# Altium footprint library 2-Battery Holders.PcbLib: 20 footprints (part 1 of 2)
Each footprint in its own frame and in the unit in brackets; x right, y up, seen from the top. Pads: shape width x height; smd on the part's side, far side on the other; paste and mask are expansions set on the pad; w line width, h text height; cw(c..) or ccw(c..) is an arc to the next point about the centre after c.
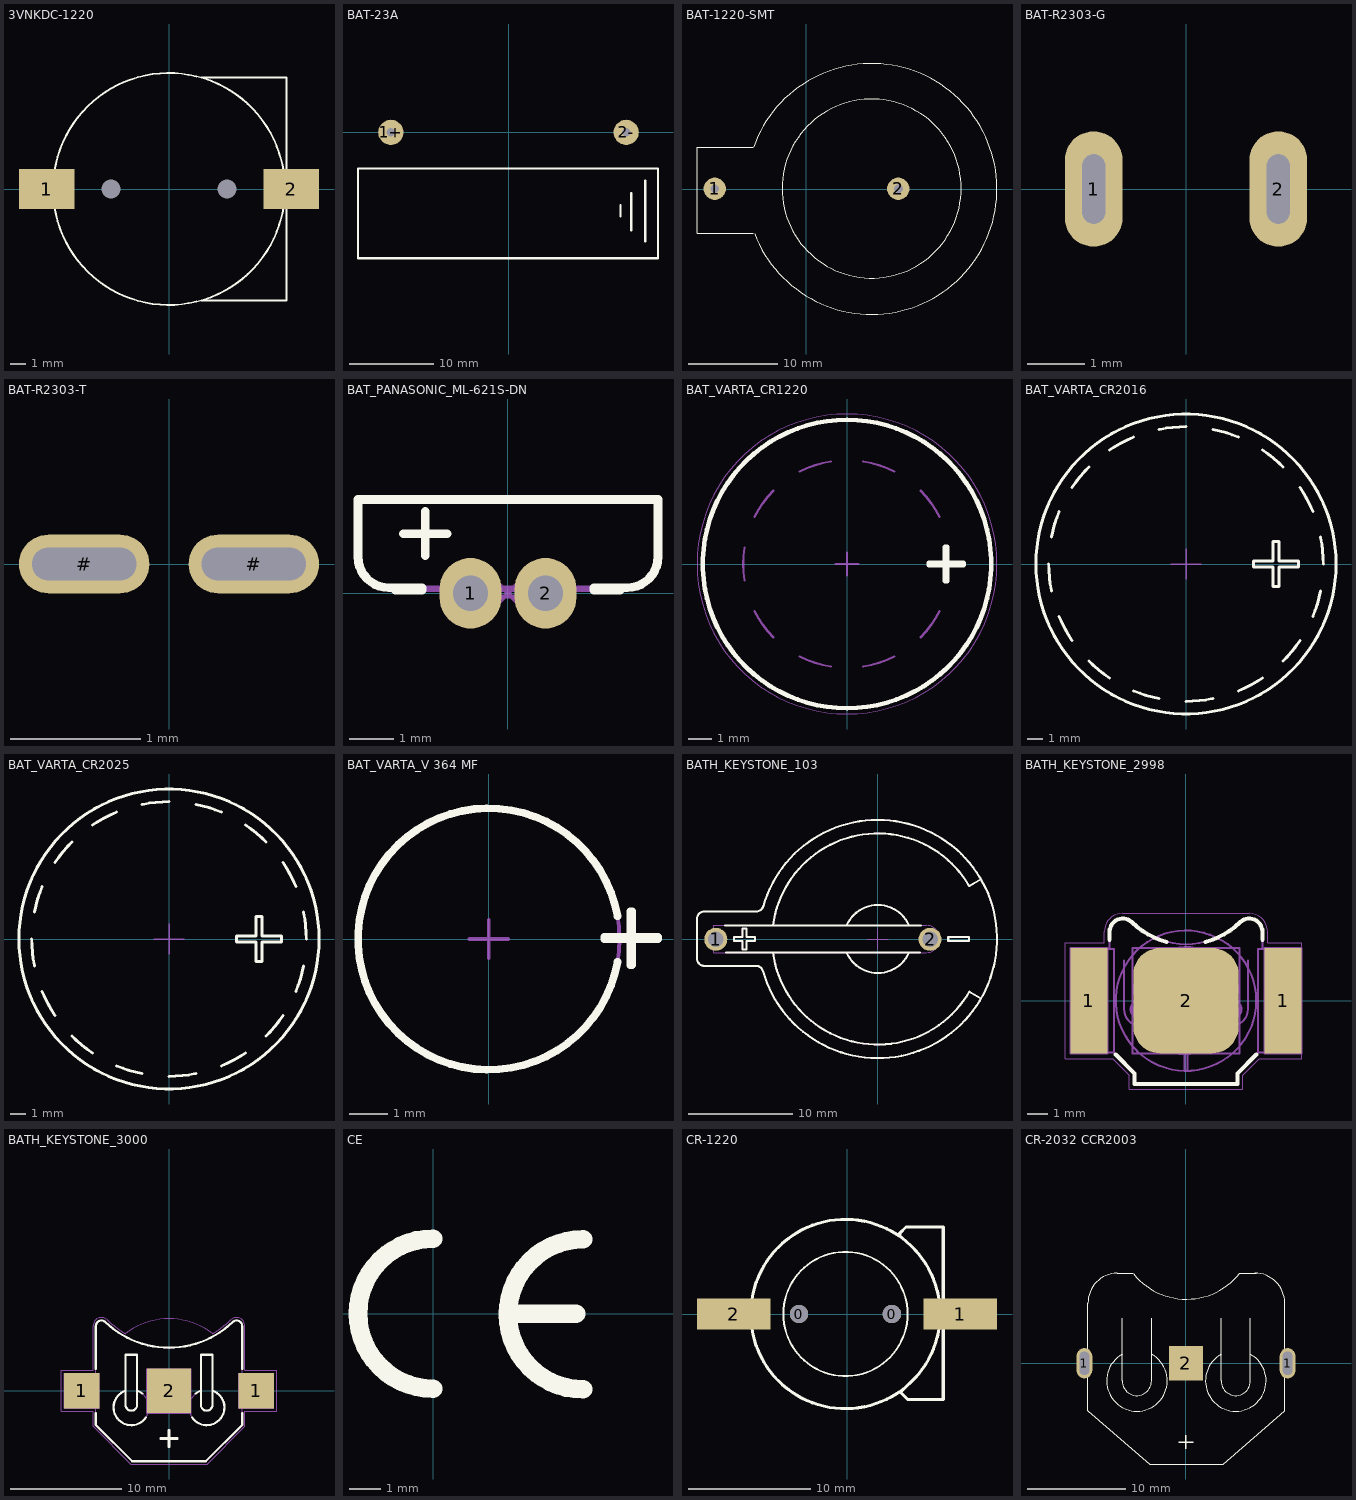
[diagram p0: the footprints below, top view; thin cyan lines are the x and y axes]

## 3VNKDC-1220 [mm]
pads (4):
  rect 3.6x2.6 smd: 1(-7.9,0) 2(7.9,0)
  round 0 hole 1.2 unplated: 3(-3.75,0) 4(3.75,0)
Top Overlay:
  circle w0.127: c0,0 r7.5
  lines w0.127: 2.1,-7.2 7.6,-7.2 7.6,7.2 2.1,7.2
3D body "cr1220-smt.stp": height 4.3, standoff 0, extent -9.263,-7.4 9.34,7.6
3D body "p360-260.stp": height 0.02, standoff 0, extent -9.7,-1.3 -6.1,1.3
3D body "p360-260.stp": height 0.02, standoff 0, extent 6.1,-1.3 9.7,1.3

## BAT-23A [mm]
pads (2):
  round 3 hole 1: 1+(-14,0) 2-(14,0)
Top Overlay:
  lines w0.254: 13.335,-10.033 13.335,-8.636 ; 14.605,-11.684 14.605,-7.239 ; 16.256,-12.954 16.256,-5.715 ; -17.907,-14.986 -17.907,-4.318 17.78,-4.318 17.78,-14.986 -17.907,-14.986
3D body "v300-100.stp": height 0.02, standoff -1.65, extent 12.5,-1.5 15.5,1.5
3D body "v300-100.stp": height 0.02, standoff -1.65, extent -15.4,-1.5 -12.4,1.5
3D body "bat-23a.stp": height 6.6, standoff -5.6, extent -17.7,-14.7 17.9,0.594

## BAT-1220-SMT [mm]
height 16.4
pads (2):
  round 2.5 hole 1: 1(-10.225,0.025)
  round 2.5 hole 1 mask+0.07: 2(10.275,0.025)
Top Overlay:
  circle w0.03: c7.301,0.051 r10
  lines w0.03: -5.945,-4.94 -12.206,-4.94 -12.206,4.674 -5.945,4.674 ; -5.887,4.697 cw(c7.301,0) -5.775,-5.002
Mechanical 6:
  text "2" at 13.515,-0.013 h0.51
  text "1" at -1.985,-0.013 h0.51
3D body "bat-1220.stp": height 6.84, standoff -2.5, extent -12.057,-13.846 21.164,13.948

## BAT-R2303-G [mm]
height 16.4
pads (2):
  oval 1x2 hole 0.4 slot 1.2 at 90 deg mask+0.07: 1(-1.6,0)
  oval 1x2 hole 0.4 slot 1.2 at 90 deg: 2(1.6,0)
3D body "bat_g.stp": height 2.58, standoff -0.8, extent -1.75,-11.302 1.75,1.243
3D body "1-2.stp": height 0.05, standoff -0.55, extent -2.1,-1 -1.1,1
3D body "1-2.stp": height 0.05, standoff -0.55, extent 1.1,-0.991 2.1,1.009

## BAT-R2303-T [mm]
height 16.4
pads (2):
  oval 1x0.45 hole 0.25 slot 0.8 at 0 deg mask+0.07: #(-0.65,0)
  oval 1x0.45 hole 0.25 slot 0.8 at 0 deg: #(0.65,0)
3D body "bat_t.stp": height 0.4, standoff -2.6, extent -5.051,-0.1 4.949,2.139

## BAT_PANASONIC_ML-621S-DN [mm] "6.8mm Diameter x 2.55mm Height Rechargeable 3V, 5mAh, Lithium Coin Cells, ML Series"
height 2.55
pads (2):
  oval 1.4x1.6 hole 0.8: 1(-0.85,0) 2(0.85,0)
Top Overlay:
  lines w0.2: -2.55,0.125 -2.55,0.075 -1.948,0.075 ; -2.375,1.35 -1.875,1.35 ; -1.943,0.125 -2.7,0.125 cw(c-2.7,0.825) -3.4,0.825 -3.4,2.125 3.4,2.125 3.4,0.825 cw(c2.7,0.825) 2.7,0.125 1.944,0.125 ; -1.875,0.85 -1.875,1.35 ; -1.875,1.85 -1.875,1.35 ; -1.375,1.35 -1.875,1.35 ; 1.948,0.075 2.543,0.075 2.543,0.125
Mechanical 8:
  lines w0.1: -1.35,0 -0.85,0 ; -0.85,-0.5 -0.85,0 ; -0.85,0.5 -0.85,0 ; -0.354,-0.354 0,0 ; -0.354,0.354 0,0 ; -0.35,0 -0.85,0 ; 0.35,0 0.85,0 ; 0.354,-0.354 0,0 ; 0.354,0.354 0,0 ; 0.85,-0.5 0.85,0 ; 0.85,0.5 0.85,0 ; 1.35,0 0.85,0
Mechanical 14:
  lines w0.1: -2.55,0.125 -2.55,0.075 2.543,0.075 2.543,0.125 ; -2.375,1.35 -1.875,1.35 ; -1.875,0.85 -1.875,1.35 ; -1.875,1.85 -1.875,1.35 ; -1.375,1.35 -1.875,1.35 ; -1.05,-0.075 -1.05,0.075 ; -1,-0.075 1,-0.075 ; 1.05,-0.075 1.05,0.075 ; -3.4,0.825 ccw(c-2.7,0.825) -2.7,0.125 2.7,0.125 ccw(c2.7,0.825) 3.4,0.825 3.4,2.125 -3.4,2.125 -3.4,0.825
3D body "BAT_PANASONIC_ML-621S-DN.stp": height 7.4, standoff -1.85, extent -3.4,-0.075 3.4,2.275
3D body "v160-110.stp": height 0.02, standoff -1.65, extent -1.65,-0.8 -0.05,0.8
3D body "v160-110.stp": height 0.02, standoff -1.65, extent 0.05,-0.8 1.65,0.8

## BAT_VARTA_CR1220 [mm] "CR1210, 12.5mm Diameter x 2mm  Height Lithium Coin Cells"
height 2
Top Overlay:
  lines w0.2: 0,-6.25 ccw(c0,0) 0,6.25 ccw(c0,0) 0,-6.25 ; 3.547,-0.05 4.247,-0.05 4.247,-0.75 4.347,-0.75 4.347,-0.05 5.047,-0.05 5.047,0.05 4.347,0.05 4.347,0.75 4.247,0.75 4.247,0.05 3.547,0.05 3.547,-0.05
Mechanical 8:
  lines w0.1: -0.5,0 0,0 ; 0,-0.5 0,0 ; 0,0.5 0,0 ; 0.5,0 0,0
Mechanical 14:
  circle w0.1: c0,0 r6.25
  lines w0.1: -4.445,-0.704 cw(c0,0) -4.445,0.704 ; -4.01,-2.043 ccw(c0,0) -3.182,-3.182 ; -4.01,2.043 cw(c0,0) -3.182,3.182 ; -2.043,-4.01 ccw(c0,0) -0.704,-4.445 ; -2.043,4.01 cw(c0,0) -0.704,4.445 ; 0.704,-4.445 ccw(c0,0) 2.043,-4.01 ; 0.704,4.445 cw(c0,0) 2.043,4.01 ; 3.182,-3.182 ccw(c0,0) 4.01,-2.043 ; 3.182,3.182 cw(c0,0) 4.01,2.043
Mechanical 15:
  circle w0.05: c0,0 r6.5
3D body "BAT_VARTA_CR1220.stp": height 2, standoff 0, extent -6.25,-6.25 6.25,6.25

## BAT_VARTA_CR2016 [mm] "CR2016, 20mm Diameter x 1.6mm  Height Lithium Coin Cells"
height 1.6
Top Overlay:
  circle w0.2: c0,0 r10
  lines w0.2: -9.15,0 ccw(c0,0) -8.974,-1.785 ; -8.974,1.785 cw(c0,0) -8.454,3.502 ; -8.454,-3.502 ccw(c0,0) -7.608,-5.083 ; -7.608,5.083 cw(c0,0) -6.47,6.47 ; -6.47,-6.47 ccw(c0,0) -5.083,-7.608 ; -5.083,7.608 cw(c0,0) -3.502,8.454 ; -3.502,-8.454 ccw(c0,0) -1.785,-8.974 ; -1.785,8.974 cw(c0,0) 0,9.15 ; 0,-9.15 ccw(c0,0) 1.785,-8.974 ; 1.785,8.974 cw(c0,0) 3.502,8.454 ; 3.502,-8.454 ccw(c0,0) 5.083,-7.608 ; 5.083,7.608 cw(c0,0) 6.47,6.47 ; 6.47,-6.47 ccw(c0,0) 7.608,-5.083 ; 7.608,5.083 cw(c0,0) 8.454,3.502 ; 8.454,-3.502 ccw(c0,0) 8.974,-1.785 ; 8.974,1.785 cw(c0,0) 9.15,0 ; 4.5,-0.2 4.5,0.2 5.813,0.2 5.813,1.5 6.213,1.5 6.213,0.2 7.5,0.2 7.5,-0.2 6.213,-0.2 6.213,-1.5 5.813,-1.5 5.813,-0.2 4.5,-0.2
Mechanical 8:
  lines w0.1: -1,0 0,0 ; 0,-1 0,0 ; 0,1 0,0 ; 1,0 0,0
Mechanical 13:
  circle w0.1: c0,0 r10
Mechanical 14:
  lines w0.1: -9.15,0 ccw(c0,0) -8.974,-1.785 ; -8.974,1.785 cw(c0,0) -8.454,3.502 ; -8.454,-3.502 ccw(c0,0) -7.608,-5.083 ; -7.608,5.083 cw(c0,0) -6.47,6.47 ; -6.47,-6.47 ccw(c0,0) -5.083,-7.608 ; -5.083,7.608 cw(c0,0) -3.502,8.454 ; -3.502,-8.454 ccw(c0,0) -1.785,-8.974 ; -1.785,8.974 cw(c0,0) 0,9.15 ; 0,-9.15 ccw(c0,0) 1.785,-8.974 ; 1.785,8.974 cw(c0,0) 3.502,8.454 ; 3.502,-8.454 ccw(c0,0) 5.083,-7.608 ; 5.083,7.608 cw(c0,0) 6.47,6.47 ; 6.47,-6.47 ccw(c0,0) 7.608,-5.083 ; 7.608,5.083 cw(c0,0) 8.454,3.502 ; 8.454,-3.502 ccw(c0,0) 8.974,-1.785 ; 8.974,1.785 cw(c0,0) 9.15,0 ; 4.5,-0.2 4.5,0.2 5.813,0.2 5.813,1.5 6.213,1.5 6.213,0.2 7.5,0.2 7.5,-0.2 6.213,-0.2 6.213,-1.5 5.813,-1.5 5.813,-0.2 4.5,-0.2
3D body "BAT_VARTA_CR2016.stp": height 1.6, standoff -0.1, extent -10,-10 10,10

## BAT_VARTA_CR2025 [mm] "CR2025, 20mm Diameter x 2.5mm  Height Lithium Coin Cells"
height 2.5
Top Overlay:
  circle w0.2: c0,0 r10
  lines w0.2: -9.15,0 ccw(c0,0) -8.974,-1.785 ; -8.974,1.785 cw(c0,0) -8.454,3.502 ; -8.454,-3.502 ccw(c0,0) -7.608,-5.083 ; -7.608,5.083 cw(c0,0) -6.47,6.47 ; -6.47,-6.47 ccw(c0,0) -5.083,-7.608 ; -5.083,7.608 cw(c0,0) -3.502,8.454 ; -3.502,-8.454 ccw(c0,0) -1.785,-8.974 ; -1.785,8.974 cw(c0,0) 0,9.15 ; 0,-9.15 ccw(c0,0) 1.785,-8.974 ; 1.785,8.974 cw(c0,0) 3.502,8.454 ; 3.502,-8.454 ccw(c0,0) 5.083,-7.608 ; 5.083,7.608 cw(c0,0) 6.47,6.47 ; 6.47,-6.47 ccw(c0,0) 7.608,-5.083 ; 7.608,5.083 cw(c0,0) 8.454,3.502 ; 8.454,-3.502 ccw(c0,0) 8.974,-1.785 ; 8.974,1.785 cw(c0,0) 9.15,0 ; 4.5,-0.2 5.813,-0.2 5.813,-1.5 6.213,-1.5 6.213,-0.2 7.5,-0.2 7.5,0.2 6.213,0.2 6.213,1.5 5.813,1.5 5.813,0.2 4.5,0.2 4.5,-0.2
Mechanical 8:
  lines w0.1: -1,0 0,0 ; 0,-1 0,0 ; 0,1 0,0 ; 1,0 0,0
Mechanical 13:
  circle w0.1: c0,0 r10
Mechanical 14:
  lines w0.1: -9.15,0 ccw(c0,0) -8.974,-1.785 ; -8.974,1.785 cw(c0,0) -8.454,3.502 ; -8.454,-3.502 ccw(c0,0) -7.608,-5.083 ; -7.608,5.083 cw(c0,0) -6.47,6.47 ; -6.47,-6.47 ccw(c0,0) -5.083,-7.608 ; -5.083,7.608 cw(c0,0) -3.502,8.454 ; -3.502,-8.454 ccw(c0,0) -1.785,-8.974 ; -1.785,8.974 cw(c0,0) 0,9.15 ; 0,-9.15 ccw(c0,0) 1.785,-8.974 ; 1.785,8.974 cw(c0,0) 3.502,8.454 ; 3.502,-8.454 ccw(c0,0) 5.083,-7.608 ; 5.083,7.608 cw(c0,0) 6.47,6.47 ; 6.47,-6.47 ccw(c0,0) 7.608,-5.083 ; 7.608,5.083 cw(c0,0) 8.454,3.502 ; 8.454,-3.502 ccw(c0,0) 8.974,-1.785 ; 8.974,1.785 cw(c0,0) 9.15,0 ; 4.5,-0.2 5.813,-0.2 5.813,-1.5 6.213,-1.5 6.213,-0.2 7.5,-0.2 7.5,0.2 6.213,0.2 6.213,1.5 5.813,1.5 5.813,0.2 4.5,0.2 4.5,-0.2
3D body "BAT_VARTA_CR2025.stp": height 2.5, standoff 0, extent -10,-10 10,10

## BAT_VARTA_V 364 MF [mm] "CR60, 6.8mm Diameter x 2.2mm  Height Silver Oxide Buttun Cell Battery"
height 3.2
Top Overlay:
  lines w0.2: 3.348,-0.59 cw(c0,0) 3.348,0.59 ; 3,0 3,0.05 3.675,0.05 3.675,0.725 3.725,0.725 3.725,0.05 4.4,0.05 4.4,0 3.725,0 3.725,-0.675 3.675,-0.675 3.675,0 3,0
Mechanical 8:
  lines w0.1: -0.5,0 0,0 ; 0,-0.5 0,0 ; 0,0.5 0,0 ; 0.5,0 0,0
Mechanical 14:
  circle w0.1: c0,0 r3.4
  lines w0.1: 3,0 3,0.05 3.675,0.05 3.675,0.725 3.725,0.725 3.725,0.05 4.4,0.05 4.4,0 3.725,0 3.725,-0.675 3.675,-0.675 3.675,0 3,0
3D body "BAT_VARTA_V 364 MF.stp": height 2.2, standoff 0, extent -3.4,-3.4 3.4,3.4

## BATH_KEYSTONE_103 [mm] "Battery Holders for 20mm Lithium Coin Cells"
height 8.5
pads (2):
  round 2.2 hole 1.5: 1(-15.5,-0.031) 2(5,-0.031)
Top Overlay:
  lines w0.2: -14.615,1.302 4.115,1.302 ; -14.528,-1.302 4.028,-1.302 ; -10.016,-1.302 ccw(c0,0) 8.751,-5.043 9.877,-5.692 ; -10.016,1.302 cw(c0,0) 8.738,5.065 9.863,5.717 ; -2.985,-1.302 ccw(c0,0) 2.985,-1.302 ; -2.985,1.302 cw(c0,0) 2.985,1.302 ; -11.763,-0.2 -11.763,0.2 ; -11.763,-0.2 -12.563,-0.2 -12.563,-1 -12.963,-1 -12.963,-0.2 -13.763,-0.2 -13.763,0.2 -12.963,0.2 -12.963,1 -12.563,1 -12.563,0.2 -11.763,0.2 ; -11.763,-0.2 -11.763,0.2 ; 8.737,-0.2 8.737,0.2 ; 8.737,-0.2 6.737,-0.2 6.737,0.2 8.737,0.2 ; 8.737,-0.2 8.737,0.2 ; -17.3,-1.872 ccw(c-16.6,-1.872) -16.6,-2.572 -11.649,-2.572 cw(c-11.649,-3.272) -10.975,-3.083 ccw(c0,0) -10.958,3.143 cw(c-11.631,3.336) -11.631,2.636 -16.6,2.636 ccw(c-16.6,1.936) -17.3,1.936 -17.3,-1.872
Mechanical 8:
  lines w0.1: -16.5,-0.031 -15.5,-0.031 ; -15.5,-1.031 -15.5,-0.031 ; -15.5,0.969 -15.5,-0.031 ; -14.5,-0.031 -15.5,-0.031 ; -1,0 0,0 ; 0,-1 0,0 ; 0,1 0,0 ; 1,0 0,0 ; 4,-0.031 5,-0.031 ; 5,-1.031 5,-0.031 ; 5,0.969 5,-0.031 ; 6,-0.031 5,-0.031
Mechanical 14:
  lines w0.1: -10.016,-1.302 ccw(c0,0) 8.751,-5.043 9.877,-5.692 ; -10.016,1.302 cw(c0,0) 8.738,5.065 9.863,5.717 ; -2.985,-1.302 ccw(c0,0) 2.985,-1.302 ; -2.985,1.302 cw(c0,0) 2.985,1.302 ; -11.763,-0.2 -11.763,0.2 ; -11.763,-0.2 -12.563,-0.2 -12.563,-1 -12.963,-1 -12.963,-0.2 -13.763,-0.2 -13.763,0.2 -12.963,0.2 -12.963,1 -12.563,1 -12.563,0.2 -11.763,0.2 ; -11.763,-0.2 -11.763,0.2 ; 8.737,-0.2 8.737,0.2 ; 8.737,-0.2 6.737,-0.2 6.737,0.2 8.737,0.2 ; 8.737,-0.2 8.737,0.2 ; -17.3,-1.872 ccw(c-16.6,-1.872) -16.6,-2.572 -11.649,-2.572 cw(c-11.649,-3.272) -10.975,-3.083 ccw(c0,0) -10.958,3.143 cw(c-11.631,3.336) -11.631,2.636 -16.6,2.636 ccw(c-16.6,1.936) -17.3,1.936 -17.3,-1.872 ; -15.7,-1.302 -15.7,1.302 4.636,1.302 cw(c4.636,0) 4.636,-1.302 -15.7,-1.302
3D body "BATH_KEYSTONE_103.stp": height 8.5, standoff -4.8, extent -17.299,-11.398 11.4,11.399

## BATH_KEYSTONE_2998 [mm] "SMD Battery Holder for SR60, SR66, SR621, LR621, MC621, V364, SC621, DR13H, D377, V13AT Coin Cells"
height 3.175
pads (3):
  rect 1.8x5.1 smd: 1(-4.7,0) 1(4.7,0)
  rrect50% 5.1x5.1 smd paste-2.55: 2(0,0)
Top Overlay:
  lines w0.2: -3.699,2.95 -3.699,3.34 cw(c-3.064,3.34) -2.621,3.795 ccw(c0,6.49) -0.938,2.849 ; -3.4,-2.597 -2.502,-3.518 -2.502,-4.026 2.502,-4.026 2.502,-3.518 3.4,-2.597 ; 0.938,2.849 ccw(c0,6.49) 2.621,3.795 cw(c3.064,3.34) 3.699,3.34 3.699,2.95
Mechanical 8:
  circle w0.1: c0,0 r2.6
  circle w0.1: c0,0 r3.4
  lines w0.1: -5.2,0 -4.7,0 ; -4.7,-0.5 -4.7,0 ; -4.7,0.5 -4.7,0 ; -4.2,0 -4.7,0 ; -0.5,0 0,0 ; 0,-0.5 0,0 ; 0,0.5 0,0 ; 0.5,0 0,0 ; 4.2,0 4.7,0 ; 4.7,-0.5 4.7,0 ; 4.7,0.5 4.7,0 ; 5.2,0 4.7,0 ; -5.6,-2.55 -3.8,-2.55 -3.8,2.55 -5.6,2.55 -5.6,-2.55 ; -2.6,-2.55 -2.6,2.55 2.6,2.55 2.6,-2.55 -2.6,-2.55 ; 3.8,-2.55 5.6,-2.55 5.6,2.55 3.8,2.55 3.8,-2.55
Mechanical 14:
  circle w0.1: c2.21,-0.422 r0.47
  circle w0.1: c-2.21,-0.422 r0.47
  lines w0.1: -3.699,2.502 -3.699,3.34 cw(c-3.064,3.34) -2.621,3.795 ccw(c0,6.49) 2.621,3.795 cw(c3.064,3.34) 3.699,3.34 3.699,2.502 ; -2.997,1.943 -2.997,-0.419 ccw(c-2.21,-0.419) -1.422,-0.419 -1.422,1.943 ; 1.422,1.943 1.422,-0.419 ccw(c2.21,-0.419) 2.997,-0.419 2.997,1.943 2.997,-0.407 ; -3.492,-2.502 -3.492,2.502 -4.305,2.502 -5.357,1.45 -5.357,0.038 cw(c-5.357,-0.775) -5.357,-1.587 -5.357,-2.502 -3.492,-2.502 ; -3.492,-2.502 -2.502,-3.518 -2.502,-4.026 2.502,-4.026 2.502,-3.518 3.493,-2.502 ; 3.493,-2.502 3.493,2.502 4.305,2.502 5.357,1.45 5.357,0.038 ccw(c5.357,-0.775) 5.357,-1.587 5.357,-2.502 3.493,-2.502 ; -1.181,-2.286 -1.181,-2.134 -0.076,-2.134 -0.076,-1.029 0.076,-1.029 0.076,-2.134 1.181,-2.134 1.181,-2.286 0.076,-2.286 0.076,-3.391 -0.076,-3.391 -0.076,-2.286 -1.181,-2.286
Mechanical 15:
  lines w0.05: -5.85,-2.8 -3.551,-2.8 -2.752,-3.62 -2.752,-4.276 2.752,-4.276 2.752,-3.62 3.551,-2.8 5.6,-2.8 5.6,2.8 3.949,2.8 3.949,3.34 ccw(c3.064,3.34) 3.064,4.225 -3.064,4.225 ccw(c-3.064,3.34) -3.949,3.34 -3.949,2.8 -5.85,2.8 -5.85,-2.8
3D body "BATH_KEYSTONE_2998.stp": height 2.9, standoff 0, extent -5.357,-4.026 5.358,3.975

## BATH_KEYSTONE_3000 [mm] "SMD Battery Holders for BR1216, CR1216, BR1220, CL1220, CR1220, BR1225 Coin Cells"
height 3.175
pads (3):
  rect 3.175x3.175 smd: 1(-7.873,0) 1(7.873,0)
  rect 4x4 smd: 2(0,0)
Top Overlay:
  lines w0.2: -6.6,-1.988 -6.6,-3.075 -3.325,-6.35 3.325,-6.35 6.6,-3.075 6.6,-1.988 ; -6.6,1.988 -6.6,5.85 cw(c-6.098,5.848) -5.75,6.21 ccw(c0,12.175) 5.75,6.21 cw(c6.099,5.849) 6.6,5.85 6.6,1.988 ; -3.921,-1.335 -3.921,3.255 ; -3.921,-1.335 ccw(c-3.4,-1.263) -2.879,-1.335 -2.879,3.255 ; -2.077,-2.4 cw(c-3.4,-1.5) -3.921,0.013 -3.921,3.255 ; 3.921,-1.335 cw(c3.4,-1.263) 2.879,-1.335 2.879,3.255 ; 3.921,-1.335 3.921,3.255 2.879,3.255 ; -3.921,3.255 -2.879,3.255 ; -3.921,3.255 -2.879,3.255 ; -2.879,0.013 cw(c-3.4,-1.5) -2.4,-0.251 ccw(c-3.4,-1.5) -2.879,0.013 ; -2.879,0.013 -2.879,3.255 ; 2.879,0.013 ccw(c3.4,-1.5) 2.4,-0.251 cw(c3.4,-1.5) 2.879,0.013 ; 2.879,0.013 2.879,3.255 ; 2.879,3.255 3.921,3.255 3.921,0.013 ; 3.921,0.013 cw(c3.4,-1.5) 2.077,-2.4 ccw(c3.4,-1.5) 3.921,0.013 ; -0.75,-4.322 -0.025,-4.322 -0.025,-5.047 0.025,-5.047 0.025,-4.322 0.75,-4.322 0.75,-4.272 0.025,-4.272 0.025,-3.547 -0.025,-3.547 -0.025,-4.272 -0.75,-4.272 -0.75,-4.322
Mechanical 8:
  lines w0.1: -8.373,0 -7.873,0 ; -7.873,-0.5 -7.873,0 ; -7.873,0.5 -7.873,0 ; -7.373,0 -7.873,0 ; -0.5,0 0,0 ; 0,-0.5 0,0 ; 0,0.5 0,0 ; 0.5,0 0,0 ; 7.373,0 7.873,0 ; 7.873,-0.5 7.873,0 ; 7.873,0.5 7.873,0 ; 8.373,0 7.873,0 ; -9.46,-1.587 -9.46,1.587 -6.285,1.587 -6.285,-1.587 -9.46,-1.587 ; -2,-2 -2,2 2,2 2,-2 -2,-2 ; 6.285,-1.587 6.285,1.587 9.46,1.587 9.46,-1.587 6.285,-1.587
Mechanical 14:
  circle w0.1: c8.03,-0.001 r0.6
  circle w0.1: c-8.03,-0.001 r0.6
  lines w0.1: -6.6,-1.59 -9.46,-1.59 -9.46,1.59 -6.6,1.59 ; -3.921,-1.335 -3.921,3.255 ; -3.921,-1.335 ccw(c-3.4,-1.263) -2.879,-1.335 -2.879,3.255 ; 3.921,-1.335 cw(c3.4,-1.263) 2.879,-1.335 2.879,3.255 ; 3.921,-1.335 3.921,3.255 2.879,3.255 ; 6.6,-1.59 9.46,-1.59 9.46,1.59 6.6,1.59 ; -3.921,0.013 ccw(c-3.4,-1.5) -2.879,0.013 ; -3.921,0.013 ccw(c-3.4,-1.5) -2.879,0.013 ; -3.921,0.013 -3.921,3.255 ; -3.921,3.255 -2.879,3.255 ; -3.921,3.255 -2.879,3.255 ; -2.879,0.013 -2.879,3.255 ; 2.879,0.013 ccw(c3.4,-1.5) 3.921,0.013 ; 2.879,0.013 ccw(c3.4,-1.5) 3.921,0.013 ; 2.879,0.013 2.879,3.255 ; 2.879,3.255 3.921,3.255 3.921,0.013 ; -6.6,-3.075 -6.6,5.85 cw(c-6.098,5.848) -5.75,6.21 ccw(c0,12.175) 5.75,6.21 cw(c6.099,5.849) 6.6,5.85 6.6,-3.075 3.325,-6.35 -3.325,-6.35 -6.6,-3.075 ; -0.75,-4.322 -0.025,-4.322 -0.025,-5.047 0.025,-5.047 0.025,-4.322 0.75,-4.322 0.75,-4.272 0.025,-4.272 0.025,-3.547 -0.025,-3.547 -0.025,-4.272 -0.75,-4.272 -0.75,-4.322
Mechanical 15:
  lines w0.05: -6.85,5.85 -6.85,1.84 -9.71,1.84 -9.71,-1.84 -6.85,-1.84 -6.85,-3.179 -3.429,-6.6 3.429,-6.6 6.85,-3.179 6.85,-1.84 9.71,-1.84 9.71,1.84 6.85,1.84 6.85,5.85 ; -6.85,5.851 cw(c-6.098,5.848) -5.577,6.39 ; -5.577,6.39 ccw(c0,12.175) -3.938,5.171 cw(c0,0) 3.938,5.171 ccw(c0,12.175) 5.577,6.39 cw(c6.099,5.849) 6.85,5.85
3D body "BATH_KEYSTONE_3000.stp": height 3.17, standoff 0, extent -9.46,-6.35 9.46,6.351

## CE [mm]
Top Overlay:
  lines w0.6: 0,-2.413 cw(c0,0) 0,2.413 ; 2.53,0 4.6,0 ; 4.826,-2.438 cw(c4.826,-0.025) 4.826,2.388
3D body "ce.stp": height 0.02, standoff 0, extent -2.725,-2.725 4.82,2.725

## CR-1220 [mm]
pads (4):
  oval 1.504x1.509 hole 1.499: 0(-3.927,0) 0(3.673,0)
  rect 6x2.5 smd: 1(9.271,0) 2(-9.271,0)
Top Overlay:
  circle w0.152: c-0.127,0 r5.082
  circle w0.254: c-0.127,0 r7.747
  lines w0.254: 4.318,6.477 4.318,6.604 4.826,7.112 7.874,7.112 7.874,-6.985 4.953,-6.985 4.381,-6.413 5.715,-5.08
3D body "p600-250.stp": height 0.02, standoff 0, extent 6.3,-1.25 12.3,1.25
3D body "p600-250.stp": height 0.02, standoff 0, extent -12.3,-1.25 -6.3,1.25
3D body "cr1220-smt.stp": height 4.3, standoff 0, extent -9.263,-7.4 9.34,7.6

## CR-2032 CCR2003 [mm]
height 3.2
pads (3):
  oval 1.6x3.1 hole 1 slot 2.4 at 90 deg: 1(-10.385,0) 1(10.385,0)
  rect 3.5x3.5 smd: 2(0,0)
Top Overlay:
  lines w0.05: -6.519,-1.802 ccw(c-5.019,-1.802) -3.519,-1.802 -3.519,4.608 ; -6.518,-1.802 -6.518,4.608 ; 3.59,4.608 3.59,-1.802 ccw(c5.09,-1.802) 6.59,-1.802 6.59,4.608
  lines w0.1: -10.024,-4.852 -10.024,4.648 -10.024,6.147 ; -10.023,-4.852 -3.714,-10.302 3.786,-10.302 10.119,-4.852 ; -10.023,6.147 cw(c-7.023,6.199) -7.023,9.199 -5.4,9.198 ; -6.534,0.903 ccw(c-5.019,-1.802) -3.504,0.903 ; -5.362,9.154 ccw(c0.036,13.466) 5.474,9.204 ; 3.581,0.906 ccw(c5.09,-1.802) 6.624,0.892 ; 5.446,9.198 7.173,9.198 ; 7.044,9.197 cw(c7.096,6.198) 10.096,6.198 ; 10.096,-4.852 10.096,4.648 10.096,6.299
  lines w0.15: -0.762,-8.077 0.762,-8.077 ; 0,-8.763 0,-7.366
3D body "bat2032-via.stp": height 0.1, standoff -1.85, extent 9.6,-1.55 11.2,1.55
3D body "bat2032-via.stp": height 0.1, standoff -1.85, extent -11.2,-1.55 -9.6,1.55
3D body "cr-2032bat.stp": height 3.6, standoff 0.22, extent -10.01,-9.755 9.93,10.162
3D body "cr-2032.stp": height 4, standoff -2.5, extent -10.64,-10.2 10.56,9.095